# Altium schematic symbol library open_src_utah.SchLib: 1 symbol
Pins are listed as number, name and electrical type; pins without a type are passive.

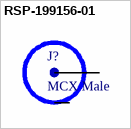
[diagram p0: symbol RSP-199156-01]

## RSP-199156-01
designator J?, comment MCX Male
Samtec MODIFIED 50 OHM MCX JACK PLUG, THROUGH-HOLE
footprint RSP-199156-01 (Samtec MODIFIED 50 OHM MCX JACK PLUG, THROUGH-HOLE)
pins: 0 GND (power), 1 SIG (power)